# Altium schematic symbol library 691137710003.SchLib: 1 symbol
Pins are listed as number, name and electrical type; pins without a type are passive.

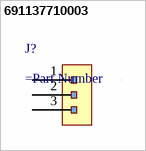
[diagram p0: symbol 691137710003]

## 691137710003
designator J?
=Description
pins: 1, 2, 3